# Altium footprint library PcbLib3.PcbLib: 1 footprints
Each footprint in its own frame and in the unit in brackets; x right, y up, seen from the top. Pads: shape width x height; smd on the part's side, far side on the other; paste and mask are expansions set on the pad; w line width, h text height; cw(c..) or ccw(c..) is an arc to the next point about the centre after c.
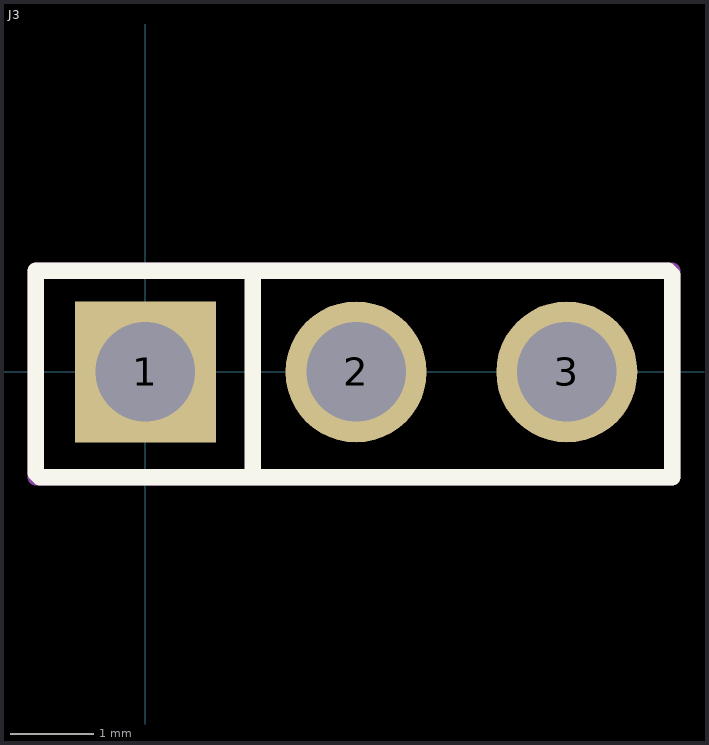
[diagram p0: the footprint, top view; thin cyan lines are the x and y axes]

## J3 [mm]
pads (3):
  rect 1.7x1.7 hole 1.2: 1(0,0)
  round 1.7 hole 1.2: 2(2.54,0) 3(5.08,0)
Top Overlay:
  lines w0.2: 1.295,-1.27 1.295,1.219 ; -1.321,-1.219 -1.27,-1.27 6.35,-1.27 6.35,1.168 6.299,1.219 -1.321,1.219 -1.321,-1.219
Mechanical 13:
  lines w0.2: -1.321,-1.219 -1.27,-1.27 6.35,-1.27 6.35,1.168 6.299,1.219 -1.321,1.219 -1.321,-1.219
Mechanical 15:
  lines w0.2: -1.321,-1.27 6.325,-1.27 6.35,-1.27 6.35,1.219 -1.321,1.219 -1.321,-1.27